# Altium footprint library 2.2uH 2.3A.PcbLib: 1 footprints
Each footprint in its own frame and in the unit in brackets; x right, y up, seen from the top. Pads: shape width x height; smd on the part's side, far side on the other; paste and mask are expansions set on the pad; w line width, h text height; cw(c..) or ccw(c..) is an arc to the next point about the centre after c.
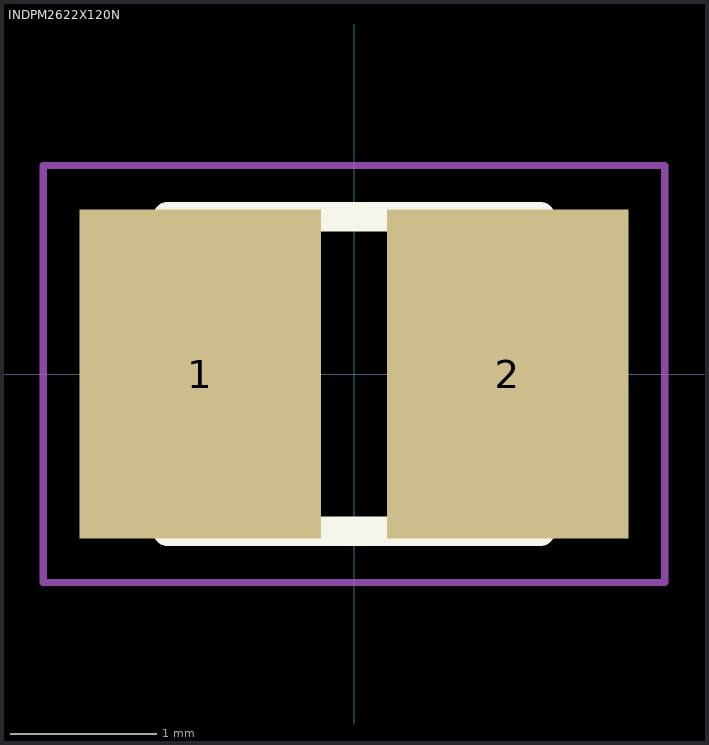
[diagram p0: the footprint, top view; thin cyan lines are the x and y axes]

## INDPM2622X120N [mm]
pads (2):
  rect 1.65x2.25 smd: 1(-1.05,0) 2(1.05,0)
Top Overlay:
  lines w0.2: -1.275,-1.075 1.275,-1.075 ; -1.275,1.075 1.275,1.075
Mechanical 13:
  lines w0.1: -1.275,-1.075 -1.275,1.075 1.275,1.075 1.275,-1.075 -1.275,-1.075
Mechanical 15:
  lines w0.05: -2.125,-1.425 -2.125,1.425 2.125,1.425 2.125,-1.425 -2.125,-1.425
3D body "SRN2512-2R2M.stp": height 1.2, standoff 0, extent -1.275,-1.075 1.275,1.075